# Altium schematic symbol library VBlib_Connectors.SchLib: 78 symbols
Pins are listed as number, name and electrical type; pins without a type are passive.

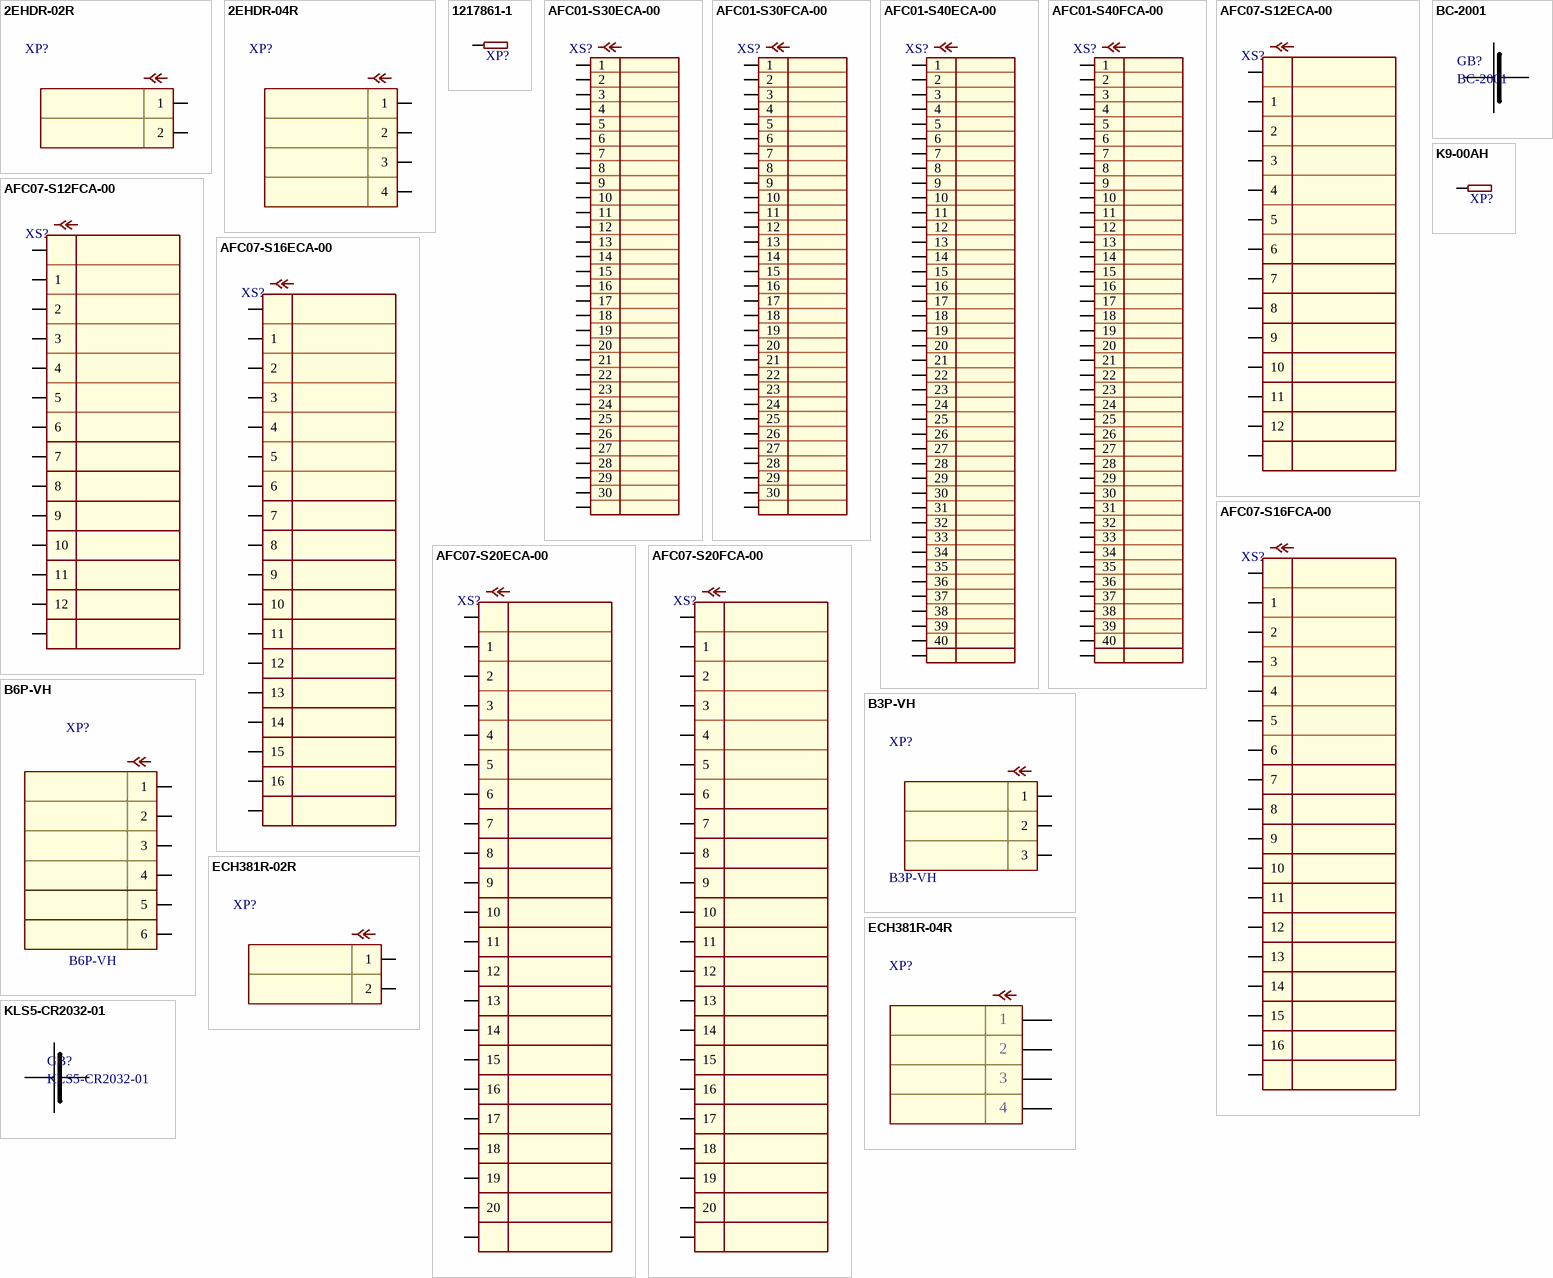
[diagram p0: symbols 2EHDR-02R to KLS5-CR2032-01]

## 2EHDR-02R
designator XP?  (value not drawn)
Header(Socket) - PCB Connector-Plug, 15A, Pitch=5.08mm, 2-pin
footprint 2EHDR-02P
pins: 1, 2

## 2EHDR-04R
designator XP?  (value not drawn)
Header(Socket) - PCB Connector-Plug, 15A, Pitch=5.08mm, 4-pin
footprint 2EHDR-04P
pins: 1, 2, 3, 4

## 1217861-1
designator XP?  (value not drawn)
TERMINAL, TAB, 6.35MM x 0.8MM, SOLDER (TE Connectivity)
footprint 1217861-1 (Ножевая клемма 6.35мм)
footprint 1217861-1_V2 (Ножевая клемма 6.35мм)
pins: 1

## AFC01-S30ECA-00
designator XS?, comment FFC/FPC connector  (value not drawn)
30-pin 0.5mm FFC/FPC connector, 90° SMT type, ZIF, top contact style
footprint FFC_FPC_30pin_0.5mm_top_cont (0.5mm FFC/FPC connector, 90° SMT type, ZIF, top contact style)
pins: 1, 2, 3, 4, 5, 6, 7, 8, 9, 10, 11, 12, 13, 14, 15, 16, 17, 18, 19, 20, 21, 22, 23, 24, 25, 26, 27, 28, 29, 30, GND

## AFC01-S30FCA-00
designator XS?, comment FFC/FPC connector  (value not drawn)
30-pin 0.5mm FFC/FPC connector, 90° SMT type, ZIF, bottom contact style
footprint FFC_FPC_30pin_0.5mm_bottom_cont (0.5mm FFC/FPC connector, 90° SMT type, ZIF, bottom contact style)
pins: 1, 2, 3, 4, 5, 6, 7, 8, 9, 10, 11, 12, 13, 14, 15, 16, 17, 18, 19, 20, 21, 22, 23, 24, 25, 26, 27, 28, 29, 30, GND

## AFC01-S40ECA-00
designator XS?, comment FFC/FPC connector  (value not drawn)
40-pin 0.5mm FFC/FPC connector, 90° SMT type, ZIF, top contact style
footprint FFC_FPC_40pin_0.5mm_top_cont (0.5mm FFC/FPC connector, 90° SMT type, ZIF, top contact style)
pins: 1, 2, 3, 4, 5, 6, 7, 8, 9, 10, 11, 12, 13, 14, 15, 16, 17, 18, 19, 20, 21, 22, 23, 24, 25, 26, 27, 28, 29, 30, 31, 32, 33, 34, 35, 36, 37, 38, 39, 40, GND

## AFC01-S40FCA-00
designator XS?, comment FFC/FPC connector  (value not drawn)
40-pin 0.5mm FFC/FPC connector, 90° SMT type, ZIF, bottom contact style
footprint FFC_FPC_40pin_0.5mm_bottom_cont (0.5mm FFC/FPC connector, 90° SMT type, ZIF, bottom contact style)
pins: 1, 2, 3, 4, 5, 6, 7, 8, 9, 10, 11, 12, 13, 14, 15, 16, 17, 18, 19, 20, 21, 22, 23, 24, 25, 26, 27, 28, 29, 30, 31, 32, 33, 34, 35, 36, 37, 38, 39, 40, GND

## AFC07-S12ECA-00
designator XS?, comment FFC/FPC connector  (value not drawn)
12-pin 0.5mm FFC/FPC connector, 90° SMT type, ZIF, top contact style
footprint FFC_FPC_12pin_0.5mm_top_cont (0.5mm FFC/FPC connector, 90° SMT type, ZIF, top contact style)
pins: 1, 2, 3, 4, 5, 6, 7, 8, 9, 10, 11, 12, GND, GND

## AFC07-S12FCA-00
designator XS?, comment FFC/FPC connector  (value not drawn)
12-pin 0.5mm FFC/FPC connector, 90° SMT type, ZIF, bottom contact style
footprint FFC_FPC_12pin_0.5mm_bottom_cont (0.5mm FFC/FPC connector, 90° SMT type, ZIF, bottom contact style)
pins: 1, 2, 3, 4, 5, 6, 7, 8, 9, 10, 11, 12, GND, GND

## AFC07-S16ECA-00
designator XS?, comment FFC/FPC connector  (value not drawn)
16-pin 0.5mm FFC/FPC connector, 90° SMT type, ZIF, top contact style
footprint FFC_FPC_16pin_0.5mm_top_cont (0.5mm FFC/FPC connector, 90° SMT type, ZIF, top contact style)
pins: 1, 2, 3, 4, 5, 6, 7, 8, 9, 10, 11, 12, 13, 14, 15, 16, GND, GND

## AFC07-S16FCA-00
designator XS?, comment FFC/FPC connector  (value not drawn)
16-pin 0.5mm FFC/FPC connector, 90° SMT type, ZIF, bottom contact style
footprint FFC_FPC_16pin_0.5mm_bottom_cont (0.5mm FFC/FPC connector, 90° SMT type, ZIF, bottom contact style)
pins: 1, 2, 3, 4, 5, 6, 7, 8, 9, 10, 11, 12, 13, 14, 15, 16, GND, GND

## AFC07-S20ECA-00
designator XS?, comment FFC/FPC connector  (value not drawn)
20-pin 0.5mm FFC/FPC connector, 90° SMT type, ZIF, top contact style
footprint FFC_FPC_20pin_0.5mm_top_cont (0.5mm FFC/FPC connector, 90° SMT type, ZIF, top contact style)
pins: 1, 2, 3, 4, 5, 6, 7, 8, 9, 10, 11, 12, 13, 14, 15, 16, 17, 18, 19, 20, GND, GND

## AFC07-S20FCA-00
designator XS?, comment FFC/FPC connector  (value not drawn)
20-pin 0.5mm FFC/FPC connector, 90° SMT type, ZIF, bottom contact style
footprint FFC_FPC_20pin_0.5mm_bottom_cont (0.5mm FFC/FPC connector, 90° SMT type, ZIF, bottom contact style)
pins: 1, 2, 3, 4, 5, 6, 7, 8, 9, 10, 11, 12, 13, 14, 15, 16, 17, 18, 19, 20, GND, GND

## B3P-VH
designator XP?, comment 1-1123723-3 (B3P-VH)  (value not drawn)
Through-hole type shrouded header, VH Series, 3.96mm
footprint B3P-VH
pins: 1, 2, 3

## B6P-VH
designator XP?, comment 1-1123723-6 (B6P-VH)  (value not drawn)
Through-hole type shrouded header, VH Series, 3.96mm
footprint B6P-VH (Разъём штыревой шаг 3.96мм)
pins: 1, 2, 3, 4, 5, 6

## BC-2001
designator GB?
2032 holder
footprint BC-2001
pins: 1 +, 2 -

## ECH381R-02R
designator XP?  (value not drawn)
Header(Socket) - PCB Connector-Plug, 8A, Pitch=3.81mm, 2-pin
footprint ECH381R-02P
pins: 1, 2

## ECH381R-04R
designator XP?  (value not drawn)
Header(Socket) - PCB Connector-Plug, 8A, Pitch=3.81mm, 4-pin
footprint ECH381R-04P
pins: 1, 2, 3, 4

## K9-00AH
designator XP?  (value not drawn)
TERMINAL, TAB, 4.8MM x 0.8MM, SOLDER (TE Connectivity)
footprint K9-00AH (Ножевая клемма 4.8мм)
pins: 1

## KLS5-CR2032-01
designator GB?
CR2032 Coin Battery Holder
footprint KLS5-CR2032-01
pins: 1 +, 2 -

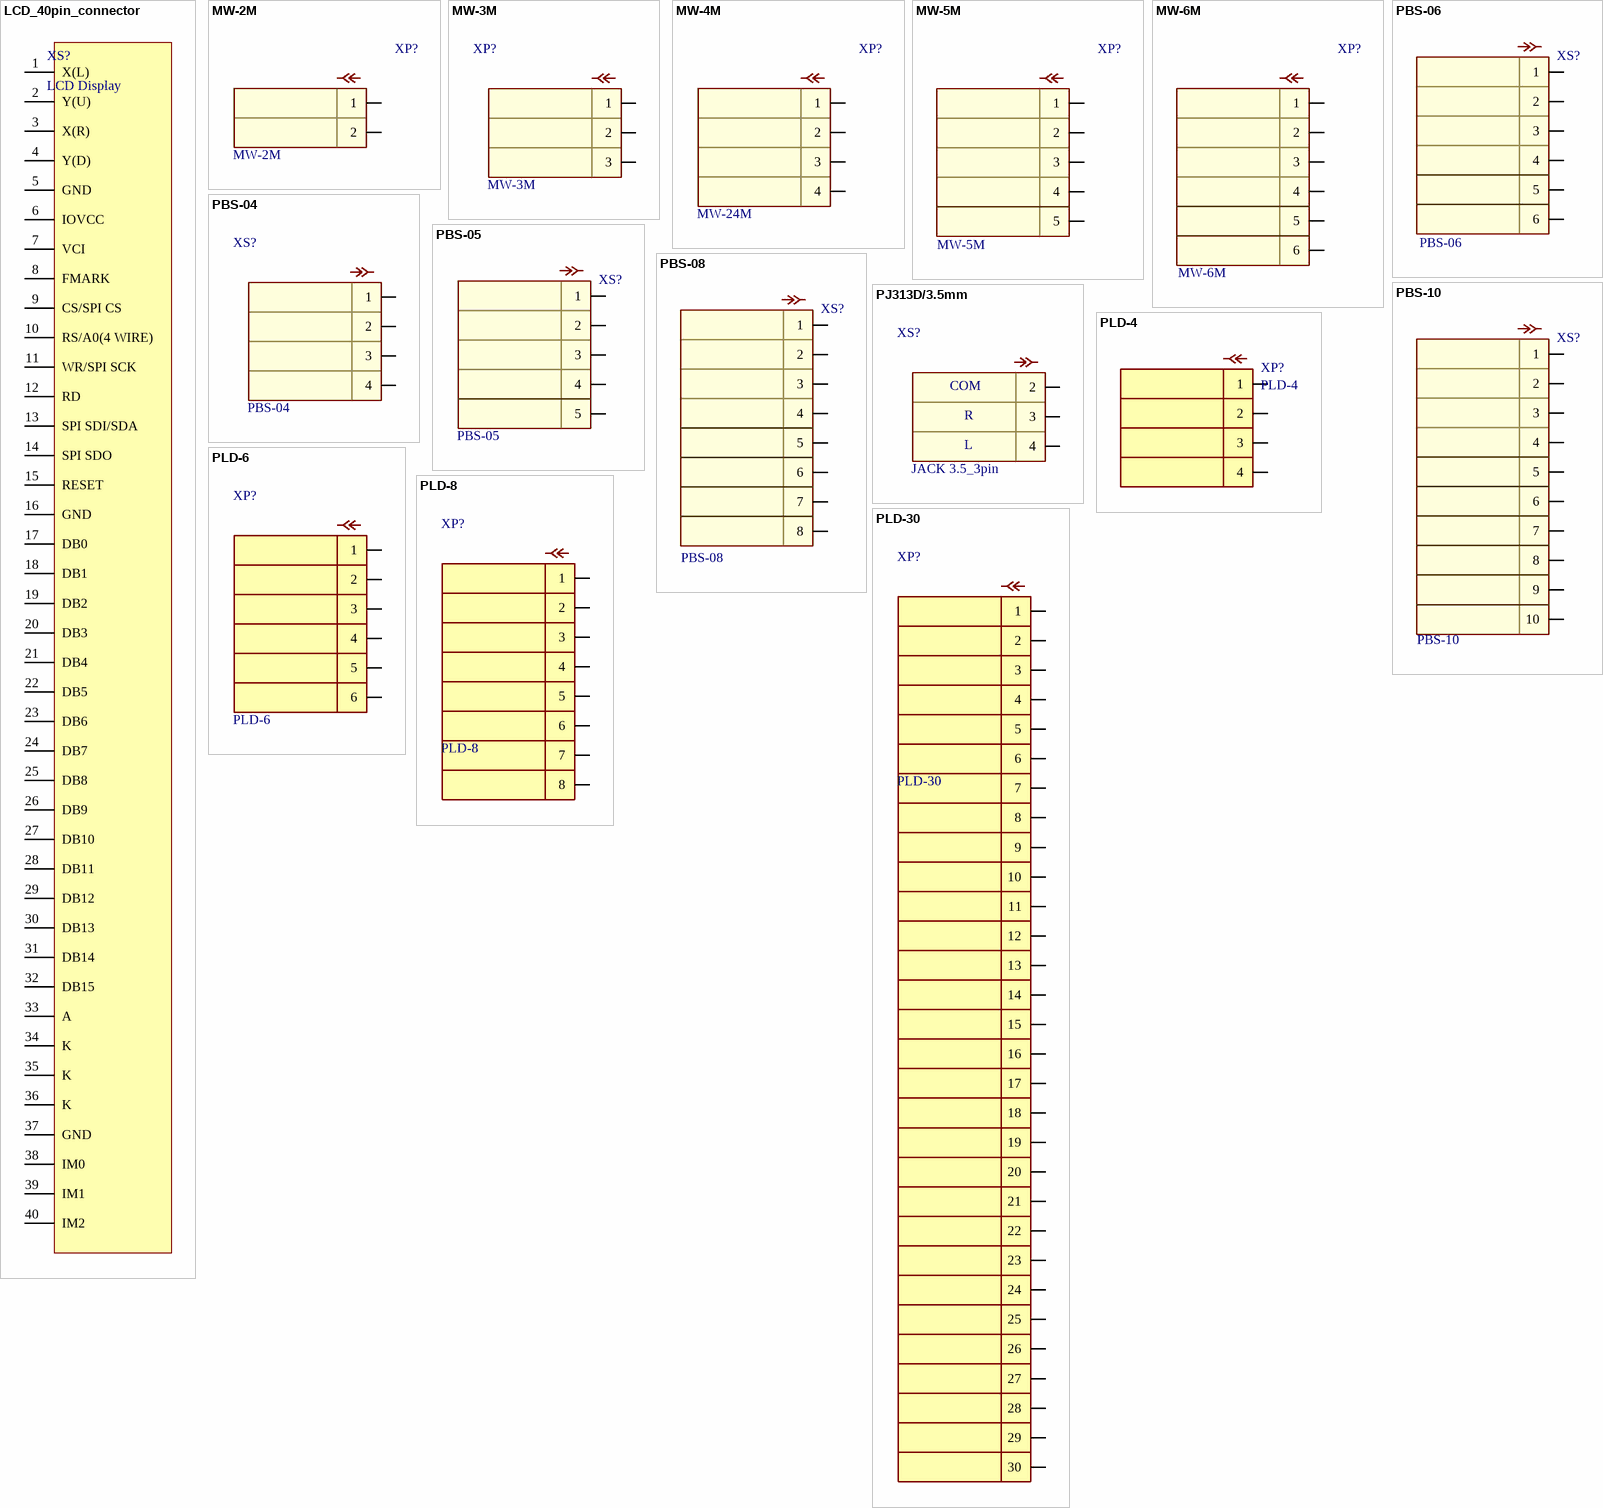
[diagram p1: symbols LCD_40pin_connector to PLD-30]

## LCD_40pin_connector
designator XS?, comment LCD Display
LCD_40pin_connector
footprint LCD_40pin_0.5mm_bottom_cont (SSOP, 80-Leads, Body 25,50x5,00mm, Pitch 0,50mm, IPC Medium Density)
footprint LCD_40pin_0.5mm_top_cont (SSOP, 80-Leads, Body 25,50x5,00mm, Pitch 0,50mm, IPC Medium Density)
pins: 1 X(L), 2 Y(U), 3 X(R), 4 Y(D), 5 GND, 6 IOVCC, 7 VCI, 8 FMARK, 9 CS/SPI CS, 10 RS/A0(4 WIRE), 11 WR/SPI SCK, 12 RD, 13 SPI SDI/SDA, 14 SPI SDO, 15 RESET, 16 GND, 17 DB0, 18 DB1, 19 DB2, 20 DB3, 21 DB4, 22 DB5, 23 DB6, 24 DB7, 25 DB8, 26 DB9, 27 DB10, 28 DB11, 29 DB12, 30 DB13, 31 DB14, 32 DB15, 33 A, 34 K, 35 K, 36 K, 37 GND, 38 IM0, 39 IM1, 40 IM2

## MW-2M
designator XP?, comment B2B-PH-K-S (MW-2M)  (value not drawn)
Through-hole type shrouded header, PH Series, 2mm
footprint MW-2M (Разъём штыревой шаг 2.0мм (ф.Бурый Медведь))
pins: 1, 2

## MW-3M
designator XP?, comment B3B-PH-K-S (MW-3M)  (value not drawn)
Through-hole type shrouded header, PH Series, 2mm
footprint MW-3M (Разъём штыревой шаг 2.0мм (ф.Бурый Медведь))
pins: 1, 2, 3

## MW-4M
designator XP?, comment B4B-PH-K-S (MW-4M)  (value not drawn)
Through-hole type shrouded header, PH Series, 2mm
footprint MW-4M (Разъём штыревой шаг 2.0мм (ф.Бурый Медведь))
pins: 1, 2, 3, 4
text: MW-24M

## MW-5M
designator XP?, comment B5B-PH-K-S (MW-5M)  (value not drawn)
Through-hole type shrouded header, PH Series, 2mm
footprint MW-5M (Разъём штыревой шаг 2.0мм (ф.Бурый Медведь))
pins: 1, 2, 3, 4, 5

## MW-6M
designator XP?, comment B6B-PH-K-S (MW-6M)  (value not drawn)
Through-hole type shrouded header, PH Series, 2mm
footprint MW-6M (Разъём штыревой шаг 2.0мм (ф.Бурый Медведь))
pins: 1, 2, 3, 4, 5, 6

## PBS-04
designator XS?
Through-hole type female header, pitch 2.54mm
footprint PBS-04
pins: 1, 2, 3, 4

## PBS-05
designator XS?
Through-hole type shrouded header, XH Series, 2.5mm
footprint PBS-05
pins: 1, 2, 3, 4, 5

## PBS-06
designator XS?
Through-hole type shrouded header, XH Series, 2.5mm
footprint PBS-06
pins: 1, 2, 3, 4, 5, 6

## PBS-08
designator XS?
Through-hole type shrouded header, XH Series, 2.5mm
footprint PBS-08
pins: 1, 2, 3, 4, 5, 6, 7, 8

## PBS-10
designator XS?
Through-hole type shrouded header, XH Series, 2.5mm
footprint PBS-10
pins: 1, 2, 3, 4, 5, 6, 7, 8, 9, 10

## PJ313D/3.5mm
designator XS?  (value not drawn)
3.5mm Plug-in headphone holder 5 Female Horizontal Audio & Video Connectors
footprint PJ313D/3.5mm (3.5mm Plug-in headphone holder 5 Female Horizontal Audio & Video Connectors)
pins: 2, 3, 4
text: COM; R; L; JACK 3.5_3pin

## PLD-4
designator XP?
Through-hole type shrouded pin header, 4-cont, 2.54mm
footprint PLD-4
pins: 1, 2, 3, 4

## PLD-6
designator XP?  (no BOM)
Through-hole type shrouded pin header, 6-cont, 2.54mm
footprint PLD-6
pins: 1, 2, 3, 4, 5, 6

## PLD-8
designator XP?  (no BOM)
Through-hole type shrouded pin header, 8-cont, 2.54mm
footprint PLD-8 (Header 2.54 4x2)
pins: 1, 2, 3, 4, 5, 6, 7, 8

## PLD-30
designator XP?  (no BOM)
Through-hole type shrouded pin header, 30-cont, 2.54mm
footprint PLD-30
pins: 1, 2, 3, 4, 5, 6, 7, 8, 9, 10, 11, 12, 13, 14, 15, 16, 17, 18, 19, 20, 21, 22, 23, 24, 25, 26, 27, 28, 29, 30

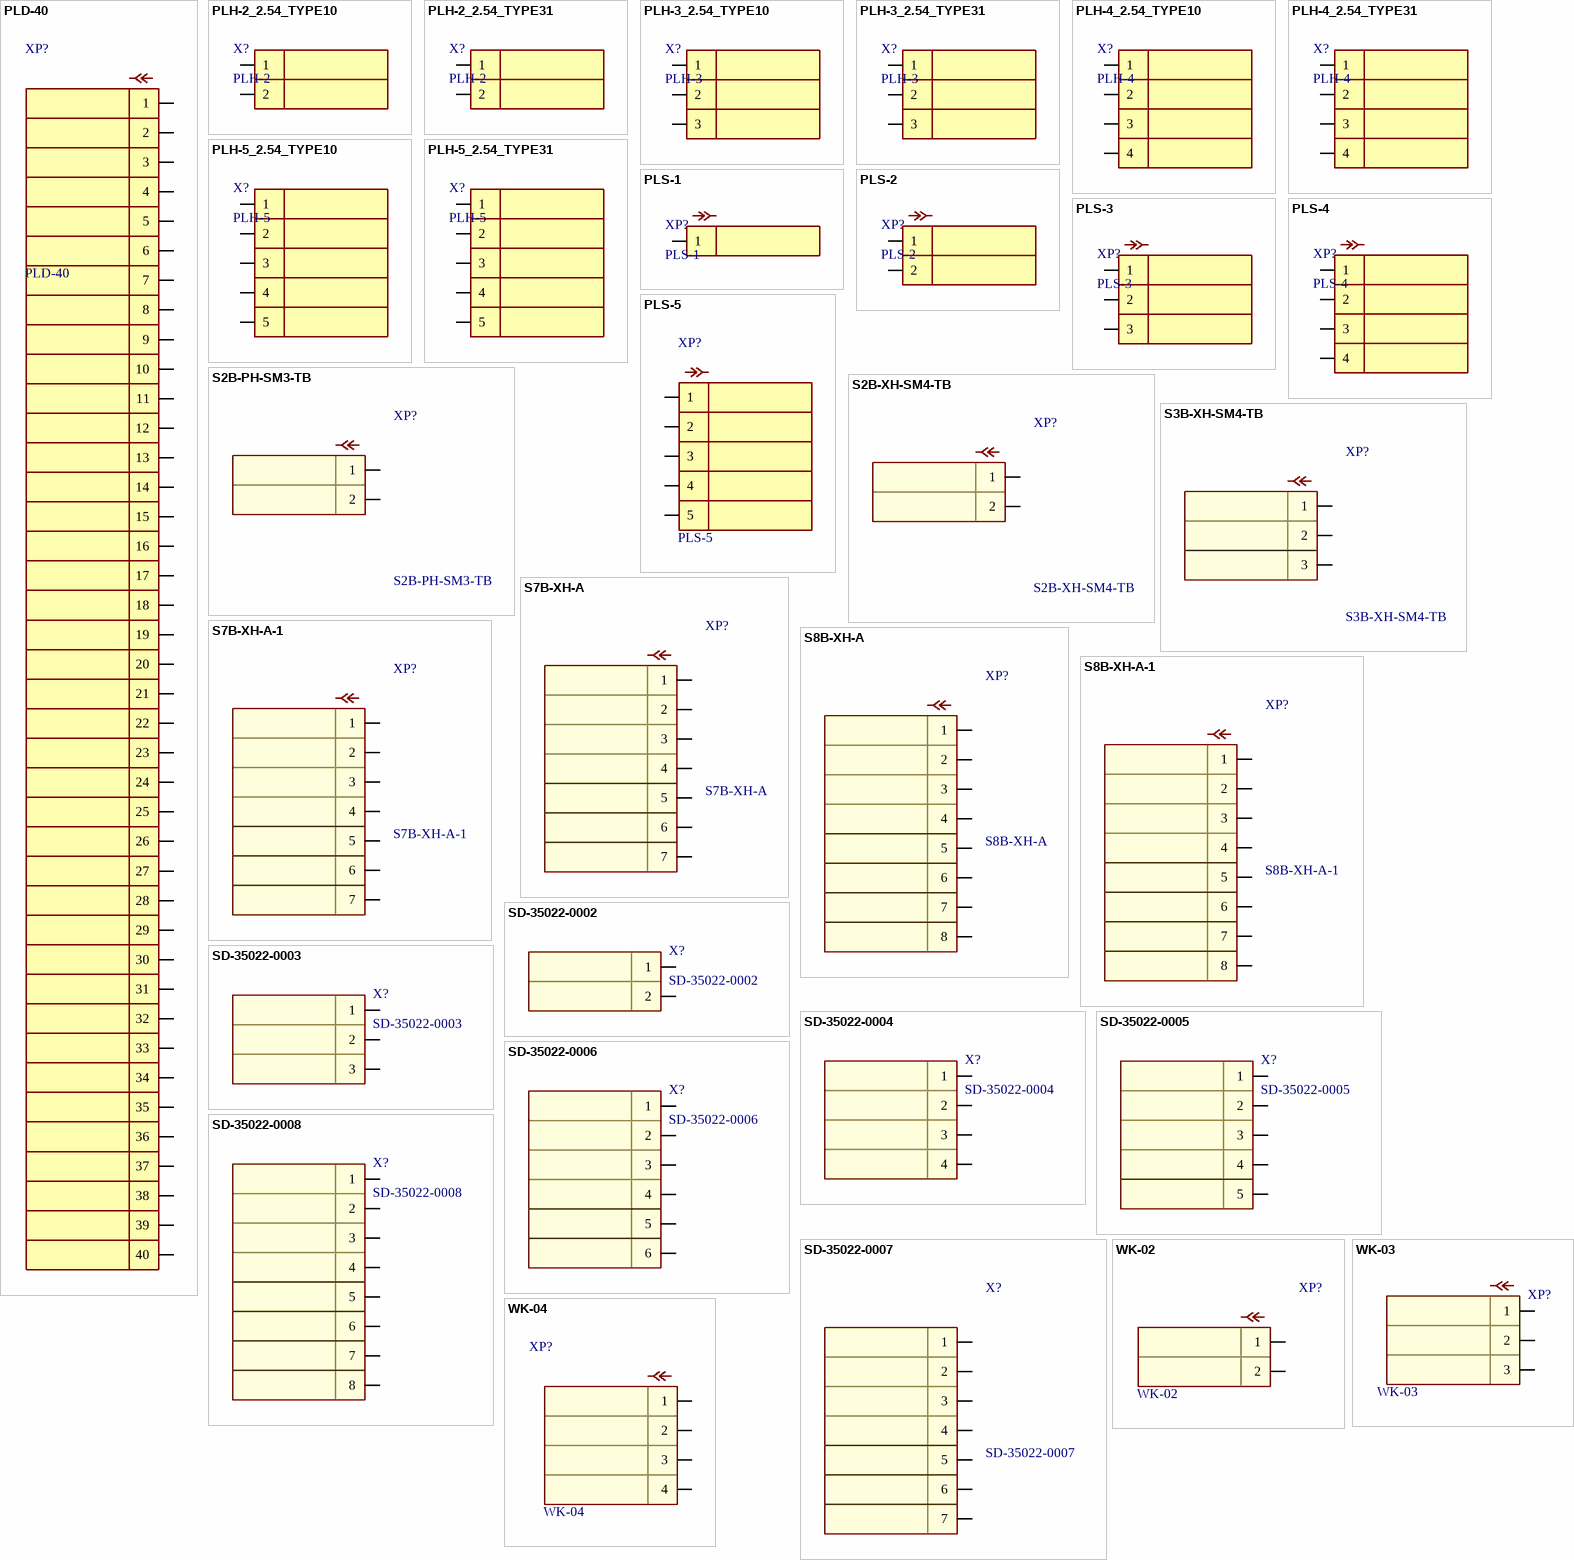
[diagram p2: symbols PLD-40 to WK-04]

## PLD-40
designator XP?  (no BOM)
Through-hole type shrouded pin header, 40-cont, 2.54mm
footprint PLD-40
pins: 1, 2, 3, 4, 5, 6, 7, 8, 9, 10, 11, 12, 13, 14, 15, 16, 17, 18, 19, 20, 21, 22, 23, 24, 25, 26, 27, 28, 29, 30, 31, 32, 33, 34, 35, 36, 37, 38, 39, 40

## PLH-2_2.54_TYPE10
designator X?, comment PLH-2
Board spacers pin header, 1-cont, 2.54mm, PLH-S-30/104/60-GO-A (type 10)
footprint PLH-2-30/104/60
pins: 1, 2

## PLH-2_2.54_TYPE31
designator X?, comment PLH-2
Board spacers pin header, 1-cont, 2.54mm, PLH-S-30/90/60-GO-A (type 10)
footprint PLH-2-30/90/60
pins: 1, 2

## PLH-3_2.54_TYPE10
designator X?, comment PLH-3
Board spacers pin header, 1-cont, 2.54mm, PLH-S-30/104/60-GO-A (type 10)
footprint PLH-3-30/104/60
pins: 1, 2, 3

## PLH-3_2.54_TYPE31
designator X?, comment PLH-3
Board spacers pin header, 1-cont, 2.54mm, PLH-S-30/90/60-GO-A (type 10)
footprint PLH-3-30/90/60
pins: 1, 2, 3

## PLH-4_2.54_TYPE10
designator X?, comment PLH-4
Board spacers pin header, 1-cont, 2.54mm, PLH-S-30/104/60-GO-A (type 10)
footprint PLH-4-30/104/60
pins: 1, 2, 3, 4

## PLH-4_2.54_TYPE31
designator X?, comment PLH-4
Board spacers pin header, 1-cont, 2.54mm, PLH-S-30/90/60-GO-A (type 10)
footprint PLH-4-30/90/60
pins: 1, 2, 3, 4

## PLH-5_2.54_TYPE10
designator X?, comment PLH-5
Board spacers pin header, 1-cont, 2.54mm, PLH-S-30/104/60-GO-A (type 10)
footprint PLH-5-30/104/60
pins: 1, 2, 3, 4, 5

## PLH-5_2.54_TYPE31
designator X?, comment PLH-5
Board spacers pin header, 1-cont, 2.54mm, PLH-S-30/90/60-GO-A (type 10)
footprint PLH-5-30/90/60
pins: 1, 2, 3, 4, 5

## PLS-1
designator XP?
Through-hole type shrouded pin header, 1-cont, 2.54mm
footprint PLS-1
pins: 1

## PLS-2
designator XP?
Through-hole type shrouded pin header, 2-cont, 2.54mm
footprint PLS-2
footprint PLS-2 - Long pads
pins: 1, 2

## PLS-3
designator XP?
Through-hole type shrouded pin header, 3-cont, 2.54mm
footprint PLS-3
footprint PLS-3 - Long pads
pins: 1, 2, 3

## PLS-4
designator XP?
Through-hole type shrouded pin header, 4-cont, 2.54mm
footprint PLS-4
footprint PLS-4 - Long pads
pins: 1, 2, 3, 4

## PLS-5
designator XP?
Through-hole type shrouded pin header, 5-cont, 2.54mm
footprint PLS-5 - Long pads
footprint PLS-5
pins: 1, 2, 3, 4, 5

## S2B-PH-SM3-TB
designator XP?
SMD type shrouded header, PH Series, 2.0mm; Name: S2B-PH
footprint S2B-PH-SM3-TB (Разъём штыревой шаг 2.0мм (ф.Бурый Медведь))
pins: 1, 2

## S2B-XH-SM4-TB
designator XP?
SMD type shrouded header, XH Series, 2.5mm, 3-pin; Name: S2B-XH
footprint S2B-XH-SM4 (Разъём штыревой шаг 2.0мм (ф.Бурый Медведь))
pins: 1, 2

## S3B-XH-SM4-TB
designator XP?
SMD type shrouded header, XH Series, 2.5mm, 3-pin; Name: S3B-XH
footprint S3B-XH-SM4 (Разъём штыревой шаг 2.0мм (ф.Бурый Медведь))
pins: 1, 2, 3

## S7B-XH-A
designator XP?
Through-hole type shrouded header, XH Series, 2.5mm, 7-pin; Name: S7B-XH
footprint S7B-XH-A (Разъём штыревой шаг 2.5мм)
pins: 1, 2, 3, 4, 5, 6, 7

## S7B-XH-A-1
designator XP?
Through-hole type shrouded header, XH Series, 2.5mm, 7-pin; Name: S7B-XH
footprint S7B-XH-A-1 (Разъём штыревой шаг 2.5мм)
pins: 1, 2, 3, 4, 5, 6, 7

## S8B-XH-A
designator XP?
Through-hole type shrouded header, XH Series, 2.5mm, 8-pin; Name: S8B-XH
footprint S8B-XH-A (Разъём штыревой шаг 2.5мм)
pins: 1, 2, 3, 4, 5, 6, 7, 8

## S8B-XH-A-1
designator XP?
Through-hole type shrouded header, XH Series, 2.5mm, 8-pin; Name: S8B-XH
footprint S8B-XH-A-1 (Разъём штыревой шаг 2.5мм)
pins: 1, 2, 3, 4, 5, 6, 7, 8

## SD-35022-0002
designator X?
2.5mm R/A B-IN Connector Housing, 2-pin (Molex)
footprint SD-35022-0002 (Разъём штыревой под пайку шаг 2.5мм)
pins: 1, 2

## SD-35022-0003
designator X?
2.5mm R/A B-IN Connector Housing, 3-pin (Molex)
footprint SD-35022-0003 (Разъём штыревой под пайку шаг 2.5мм)
pins: 1, 2, 3

## SD-35022-0004
designator X?
2.5mm R/A B-IN Connector Housing, 4-pin (Molex)
footprint SD-35022-0004 (Разъём штыревой под пайку шаг 2.5мм)
pins: 1, 2, 3, 4

## SD-35022-0005
designator X?
2.5mm R/A B-IN Connector Housing, 5-pin (Molex)
footprint SD-35022-0005 (Разъём штыревой под пайку шаг 2.5мм)
pins: 1, 2, 3, 4, 5

## SD-35022-0006
designator X?
2.5mm R/A B-IN Connector Housing, 6-pin (Molex)
footprint SD-35022-0006 (Разъём штыревой под пайку шаг 2.5мм)
pins: 1, 2, 3, 4, 5, 6

## SD-35022-0007
designator X?
2.5mm R/A B-IN Connector Housing, 7-pin (Molex)
footprint SD-35022-0007 (Разъём штыревой под пайку шаг 2.5мм)
pins: 1, 2, 3, 4, 5, 6, 7

## SD-35022-0008
designator X?
2.5mm R/A B-IN Connector Housing, 8-pin (Molex)
footprint SD-35022-0008 (Разъём штыревой под пайку шаг 2.5мм)
pins: 1, 2, 3, 4, 5, 6, 7, 8

## WK-02
designator XP?, comment B2B-XH-A (LF) (SN) (WK-02)  (value not drawn)
Through-hole type shrouded header, XH Series, 2.5mm
footprint WK-02 (Разъём штыревой шаг 2.5мм (JST))
pins: 1, 2

## WK-03
designator XP?, comment B3B-XH-A (LF) (SN) (WK-03)  (value not drawn)
Through-hole type shrouded header, XH Series, 2.5mm
footprint WK-03 (Разъём штыревой шаг 2.5мм)
pins: 1, 2, 3

## WK-04
designator XP?, comment B4B-XH-A (LF) (SN) (WK-04)  (value not drawn)
Through-hole type shrouded header, XH Series, 2.5mm
footprint WK-04 (Разъём штыревой шаг 2.5мм)
pins: 1, 2, 3, 4

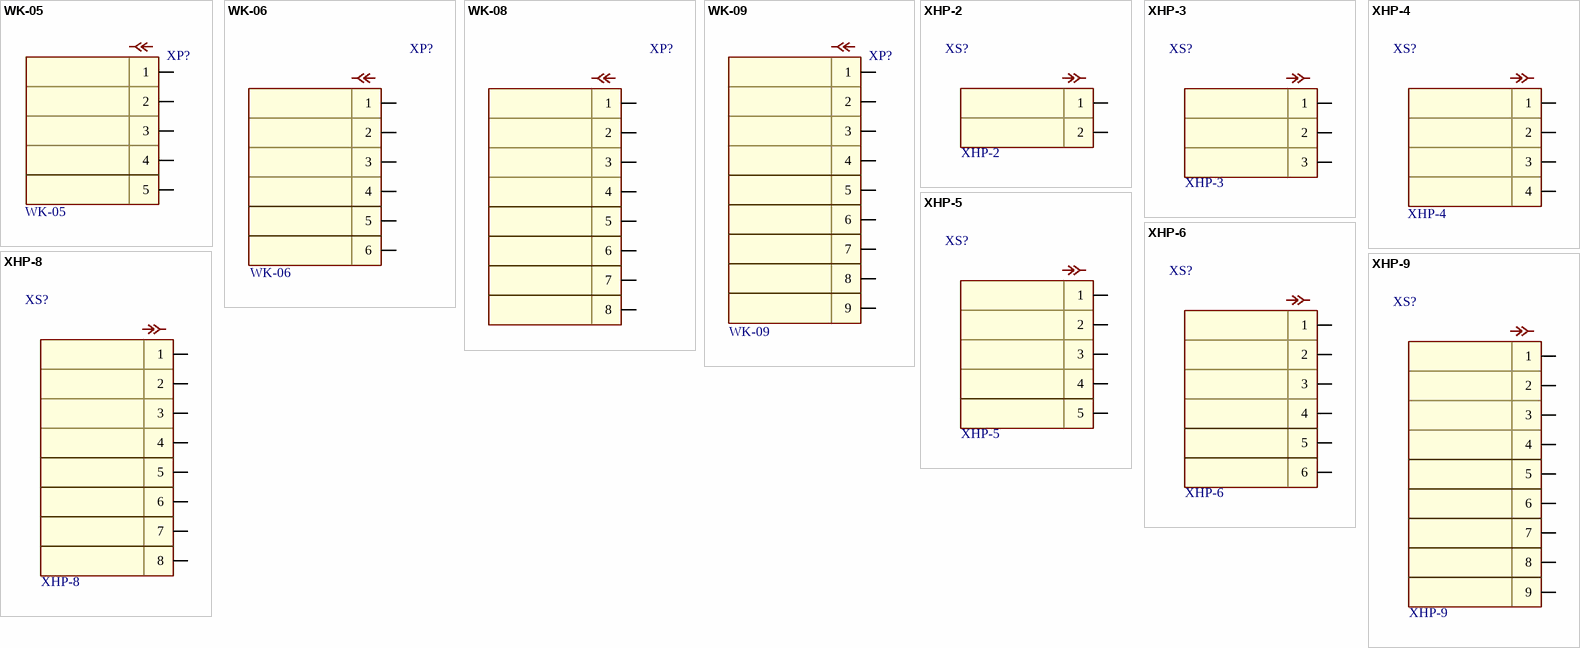
[diagram p3: symbols WK-05 to XHP-9]

## WK-05
designator XP?, comment B5B-XH-A (LF) (SN) (WK-05)  (value not drawn)
Through-hole type shrouded header, XH Series, 2.5mm
footprint WK-05 (Разъём штыревой шаг 2.5мм)
pins: 1, 2, 3, 4, 5

## WK-06
designator XP?, comment B6B-XH-A (LF) (SN) (WK-06)  (value not drawn)
Through-hole type shrouded header, XH Series, 2.5mm
footprint WK-06 (Разъём штыревой шаг 2.5мм)
pins: 1, 2, 3, 4, 5, 6

## WK-08
designator XP?, comment B8B-XH-A (LF) (SN) (WK-08)  (value not drawn)
Through-hole type shrouded header, XH Series, 2.5mm
footprint WK-08 (Разъём штыревой шаг 2.5мм)
pins: 1, 2, 3, 4, 5, 6, 7, 8

## WK-09
designator XP?, comment B9B-XH-A (LF) (SN) (WK-09)  (value not drawn)
Through-hole type shrouded header, XH Series, 2.5mm
footprint WK-09 (Разъём штыревой шаг 2.5мм)
pins: 1, 2, 3, 4, 5, 6, 7, 8, 9

## XHP-2
designator XS?
XH 2 0.098"(2.50mm) 1 Male P=2.5mm Rectangular Connectors Housings RoHS
pins: 1, 2

## XHP-3
designator XS?
XH 3 0.098"(2.50mm) 1 Male P=2.5mm Rectangular Connectors Housings RoHS
pins: 1, 2, 3

## XHP-4
designator XS?
XH 4 0.098"(2.50mm) 1 Male P=2.5mm Rectangular Connectors Housings RoHS
pins: 1, 2, 3, 4

## XHP-5
designator XS?
XH 5 0.098"(2.50mm) 1 Male P=2.5mm Rectangular Connectors Housings RoHS
pins: 1, 2, 3, 4, 5

## XHP-6
designator XS?
XH 6 0.098"(2.50mm) 1 Male P=2.5mm Rectangular Connectors Housings RoHS
pins: 1, 2, 3, 4, 5, 6

## XHP-8
designator XS?
XH 8 0.098"(2.50mm) 1 Male P=2.5mm Rectangular Connectors Housings RoHS
pins: 1, 2, 3, 4, 5, 6, 7, 8

## XHP-9
designator XS?
XH 9 0.098"(2.50mm) 1 Male P=2.5mm Rectangular Connectors Housings RoHS
pins: 1, 2, 3, 4, 5, 6, 7, 8, 9